# Altium footprint library PCB-Library.PcbLib: 27 footprints (part 1 of 2)
Each footprint in its own frame and in the unit in brackets; x right, y up, seen from the top. Pads: shape width x height; smd on the part's side, far side on the other; paste and mask are expansions set on the pad; w line width, h text height; cw(c..) or ccw(c..) is an arc to the next point about the centre after c.
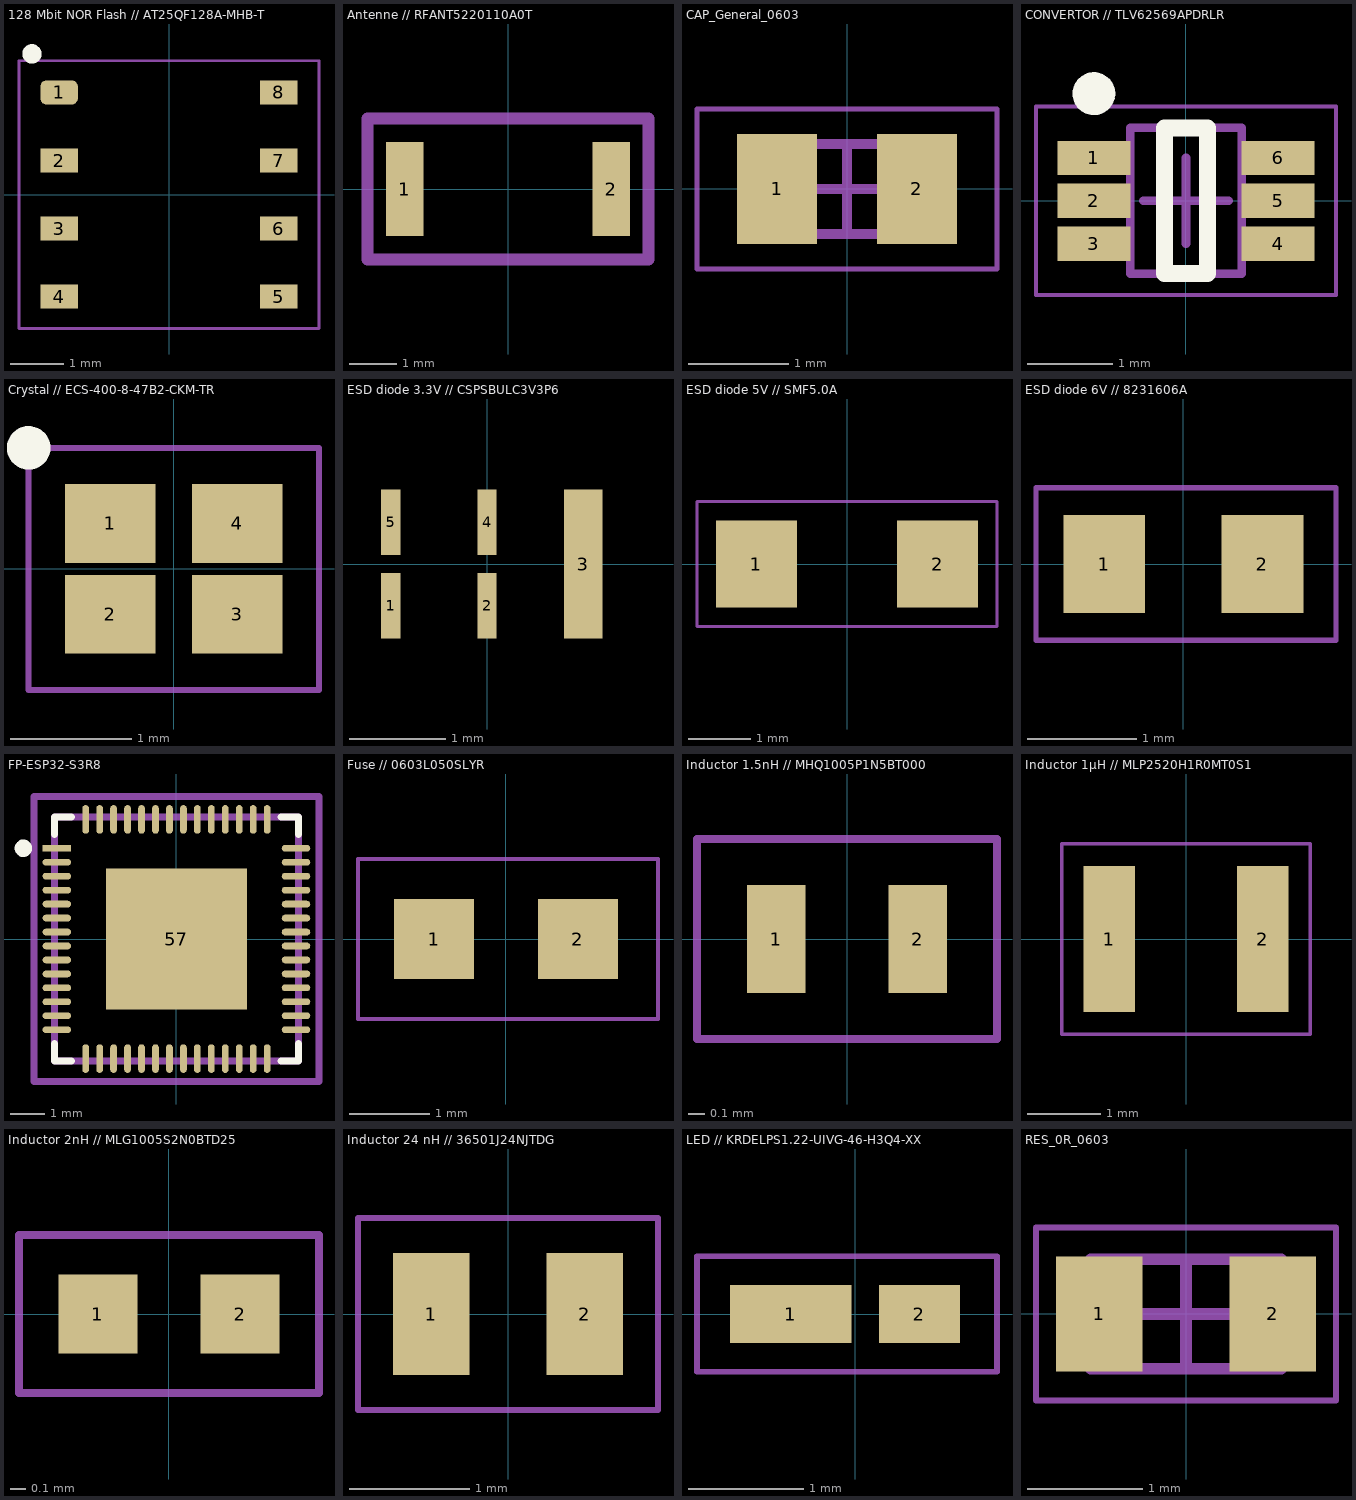
[diagram p0: the footprints below, top view; thin cyan lines are the x and y axes]

## 128 Mbit NOR Flash // AT25QF128A-MHB-T [mm]
pads (8):
  rrect50% 0.7x0.45 smd: 1(-2.05,1.905)
  rect 0.7x0.45 smd: 2(-2.05,0.635) 3(-2.05,-0.635) 4(-2.05,-1.905) 5(2.05,-1.905) 6(2.05,-0.635) 7(2.05,0.635) 8(2.05,1.905)
Top Overlay:
  circle w0.2: c-2.558,2.626 r0.08
Mechanical 15:
  lines w0.05: -2.8,-2.5 2.8,-2.5 2.8,2.5 -2.8,2.5 -2.8,-2.5

## Antenne // RFANT5220110A0T [mm]
pads (2):
  rect 0.8x2 smd: 1(-2.2,0) 2(2.2,0)
Mechanical 15:
  lines w0.254: -3,-1.5 -3,1.5 3,1.5 3,-1.5 -3,-1.5

## CAP_General_0603 [mm] "Chip Capacitor, 2-Leads, Body 1,60x0,80mm, IPC Medium Density"
height 0.7
pads (2):
  rect 0.8x1.1 smd: 1(-0.7,0) 2(0.7,0)
Mechanical 13:
  lines w0.1: -0.85,-0.45 -0.85,0.45 0.85,0.45 0.85,-0.45 -0.85,-0.45
Mechanical 15:
  lines w0.05: -1.5,-0.8 -1.5,0.8 1.5,0.8 1.5,-0.8 -1.5,-0.8
  lines w0.1: -0.45,0 0.45,0 ; 0,-0.45 0,0.45
3D body: height 0.7, standoff 0, extent -0.4,-0.45 0.4,0.45
3D body: height 0.7, standoff 0, extent -0.85,-0.45 -0.4,0.45
3D body: height 0.7, standoff 0, extent 0.4,-0.45 0.85,0.45

## CONVERTOR // TLV62569APDRLR [mm] "SOT23, 6-Leads, Body 1,60x2,15mm, Pitch 0,50mm, IPC Medium Density"
height 0.6
pads (6):
  rect 0.85x0.4 smd: 1(-1.075,0.5) 2(-1.075,0) 3(-1.075,-0.5) 4(1.075,-0.5) 5(1.075,0) 6(1.075,0.5)
Top Overlay:
  circle w0.25: c-1.075,1.25 r0.125
  lines w0.2: -0.25,-0.85 0.25,-0.85 0.25,0.85 -0.25,0.85 -0.25,-0.85
Mechanical 13:
  lines w0.1: -0.65,-0.85 -0.65,0.85 0.65,0.85 0.65,-0.85 -0.65,-0.85
Mechanical 15:
  lines w0.05: -1.75,-1.1 -1.75,1.1 1.75,1.1 1.75,-1.1 -1.75,-1.1
  lines w0.1: -0.5,0 0.5,0 ; 0,-0.5 0,0.5
3D body: height 0.6, standoff 0.05, extent -0.65,-0.85 0.65,0.85

## Crystal // ECS­400­8­47B2­CKM­TR [mm] "40 MHz Crystal"
pads (4):
  rect 0.75x0.65 smd: 1(-0.525,0.375) 2(-0.525,-0.375) 3(0.525,-0.375) 4(0.525,0.375)
Top Overlay:
  circle w0.2: c-1.2,1 r0.08
Mechanical 15:
  lines w0.05: -1.2,-1 -1.2,1 1.2,1 1.2,-1 -1.2,-1

## ESD diode 3.3V // CSPSBULC3V3P6 [mm]
pads (5):
  rect 0.2x0.68 smd: 1(-1,-0.435) 2(0,-0.435) 4(0,0.435) 5(-1,0.435)
  rect 0.4x1.55 smd: 3(1,0)

## ESD diode 5V // SMF5.0A [mm]
pads (2):
  rect 1.3x1.4 smd: 1(-1.45,0) 2(1.45,0)
Mechanical 15:
  lines w0.05: -2.4,-1 2.4,-1 2.4,1 -2.4,1 -2.4,-1

## ESD diode 6V // 8231606A [mm]
pads (2):
  rect 0.75x0.9 smd: 1(-0.725,0) 2(0.725,0)
Mechanical 15:
  lines w0.05: -1.35,-0.7 1.4,-0.7 1.4,0.7 -1.35,0.7 -1.35,-0.7

## FP-ESP32-S3R8 [mm]
pads (57):
  rect 0.818x0.192 smd paste+0 mask+0: 1(-3.427,2.6)
  rrect100% 0.818x0.192 smd paste+0 mask+0: 2(-3.427,2.2) 3(-3.427,1.8) 4(-3.427,1.4) 5(-3.427,1) 6(-3.427,0.6) 7(-3.427,0.2) 8(-3.427,-0.2) 9(-3.427,-0.6) 10(-3.427,-1) 11(-3.427,-1.4) 12(-3.427,-1.8) 13(-3.427,-2.2) 14(-3.427,-2.6) 29(3.427,-2.6) 30(3.427,-2.2) 31(3.427,-1.8) 32(3.427,-1.4) 33(3.427,-1) 34(3.427,-0.6) 35(3.427,-0.2) 36(3.427,0.2) 37(3.427,0.6) 38(3.427,1) 39(3.427,1.4) 40(3.427,1.8) 41(3.427,2.2) 42(3.427,2.6)
  rrect100% 0.192x0.818 smd paste+0 mask+0: 15(-2.6,-3.427) 16(-2.2,-3.427) 17(-1.8,-3.427) 18(-1.4,-3.427) 19(-1,-3.427) 20(-0.6,-3.427) 21(-0.2,-3.427) 22(0.2,-3.427) 23(0.6,-3.427) 24(1,-3.427) 25(1.4,-3.427) 26(1.8,-3.427) 27(2.2,-3.427) 28(2.6,-3.427) 43(2.6,3.427) 44(2.2,3.427) 45(1.8,3.427) 46(1.4,3.427) 47(1,3.427) 48(0.6,3.427) 49(0.2,3.427) 50(-0.2,3.427) 51(-0.6,3.427) 52(-1,3.427) 53(-1.4,3.427) 54(-1.8,3.427) 55(-2.2,3.427) 56(-2.6,3.427)
  rect 4.05x4.05 smd paste-1000 mask+0: 57(0,0)
Top Overlay:
  circle w0.25: c-4.386,2.6 r0.125
  lines w0.2: -3.5,-3 -3.5,-3.5 -3,-3.5 ; -3.5,3 -3.5,3.5 -3,3.5 ; 3,-3.5 3.5,-3.5 3.5,-3 ; 3,3.5 3.5,3.5 3.5,3
Top Paste:
  rectangle: -1.281,-1.281 1.281,1.281
Top 3D Body:
  lines w0.2: -3.5,-3.5 3.5,-3.5 3.5,3.5 -3.5,3.5 -3.5,-3.5
Top Courtyard:
  lines w0.2: -4.086,-4.086 4.086,-4.086 4.086,4.086 -4.086,4.086 -4.086,-4.086
Top Assembly:
  lines w0.2: -4.086,-4.086 4.086,-4.086 4.086,4.086 -4.086,4.086 -4.086,-4.086
  text ".Designator" at 0,0.188 h1
Top Component Center:
  lines w0.1: -0.5,0 0.5,0 ; 0,-0.5 0,0.5
3D body "IC_Espressif_ESP32-S3R8_eec.STEP": height 0.25, standoff 0, extent -4.1,-4.086 4.072,4.086

## Fuse // 0603L050SLYR [mm]
pads (2):
  rect 1x1 smd: 1(-0.9,0) 2(0.9,0)
Mechanical 15:
  lines w0.05: -1.85,-1 1.9,-1 1.9,1 -1.85,1 -1.85,-1

## Inductor 1.5nH // MHQ1005P1N5BT000 [mm]
pads (2):
  rect 0.35x0.65 smd: 1(-0.425,0) 2(0.425,0)
Mechanical 15:
  lines w0.05: -0.9,-0.6 -0.9,0.6 0.9,0.6 0.9,-0.6 -0.9,-0.6

## Inductor 1µH // MLP2520H1R0MT0S1 [mm]
pads (2):
  rect 0.7x2 smd: 1(-1.05,0) 2(1.05,0)
Mechanical 15:
  lines w0.05: -1.7,-1.3 1.7,-1.3 1.7,1.3 -1.7,1.3 -1.7,-1.3

## Inductor 2nH // MLG1005S2N0BTD25 [mm]
pads (2):
  rect 0.5x0.5 smd: 1(-0.45,0) 2(0.45,0)
Mechanical 15:
  lines w0.05: -0.95,-0.5 0.95,-0.5 0.95,0.5 -0.95,0.5 -0.95,-0.5

## Inductor 24 nH // 36501J24NJTDG [mm]
pads (2):
  rect 0.64x1.02 smd: 1(-0.64,0) 2(0.64,0)
Mechanical 15:
  lines w0.05: -1.25,-0.8 1.25,-0.8 1.25,0.8 -1.25,0.8 -1.25,-0.8

## LED // KRDELPS1.22-UIVG-46-H3Q4-XX [mm]
pads (2):
  rect 1.05x0.5 smd: 1(-0.557,0)
  rect 0.7x0.5 smd: 2(0.557,0)
Mechanical 15:
  lines w0.05: -1.37,-0.5 -1.37,0.5 1.23,0.5 1.23,-0.5 -1.37,-0.5

## RES_0R_0603 [mm] "Chip Resistor, 2-Leads, Body 1,58x0,85mm, IPC Medium Density"
height 0.5
pads (2):
  rect 0.75x1 smd: 1(-0.75,0) 2(0.75,0)
Mechanical 13:
  lines w0.1: -0.825,-0.475 -0.825,0.475 0.825,0.475 0.825,-0.475 -0.825,-0.475
Mechanical 15:
  lines w0.05: -1.3,-0.75 -1.3,0.75 1.3,0.75 1.3,-0.75 -1.3,-0.75
  lines w0.1: -0.475,0 0.475,0 ; 0,-0.475 0,0.475
3D body: height 0.5, standoff 0, extent -0.525,-0.475 0.525,0.475
3D body: height 0.5, standoff 0, extent -0.825,-0.475 -0.525,0.475
3D body: height 0.5, standoff 0, extent 0.525,-0.475 0.825,0.475